# Altium schematic symbol library Converter.SCHLIB: 203 symbols
Pins are listed as number, name and electrical type; pins without a type are passive.

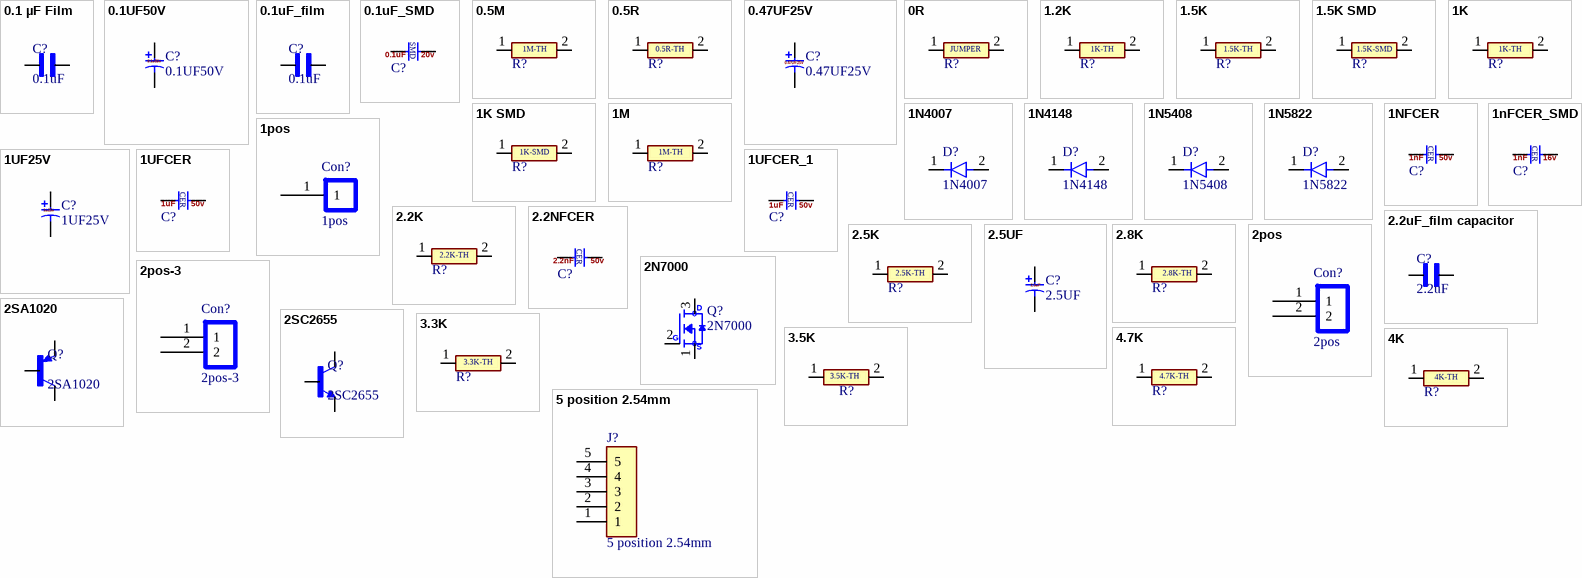
[diagram p0: symbols 0.1 µF Film to 5 position 2.54mm]

## 0.1 µF Film
designator C?, comment 0.1uF
0.15 µF Film Capacitor 275V 560V Polypropylene (PP), Metallized Radial; MF: KYOCERA AVX; MP: SR201C104KARTR1; SnapEDA_Link: https://www.snapeda.com/parts/SR201C104KARTR1/Kyocera/view-part/?ref=snap; Package: None; Value: *; Check_prices: https://www.snapeda.com/parts/SR201C104KARTR1/Kyocera/view-part/?ref=eda
footprint CAP_FILM_X2_15MM
pins: 1, 2

## 0.1UF50V
designator C?
CAP TH AL: 0.1U 50V
footprint CAP LS-1.5mm D4 H5
pins: 1, 2
text: 0.1u50v

## 0.1uF_film
designator C?, comment 0.1uF
Cap Ceramic 0.1uF 100V X7R 10% Radial 2.54mm 125Â°C T/R; MF: KYOCERA AVX; MP: SR201C104KARTR1; SnapEDA_Link: https://www.snapeda.com/parts/SR201C104KARTR1/Kyocera/view-part/?ref=snap; Package: None; Value: *; Check_prices: https://www.snapeda.com/parts/SR201C104KARTR1/Kyocera/view-part/?ref=eda
footprint CAP-P_Pilm
pins: 1, 2

## 0.1uF_SMD
designator C?, comment 0.1uFSMD  (value not drawn)
0402 0.1 uF 16 V ±20 % Tolerance Y5V SMT Multilayer Ceramic Capacitor; LCSC Part #: C1848; Unit Price: 0.0104
footprint C0805
pins: 1, 2
text: SMD; 0.1uF; 20v

## 0.5M
designator R?  (value not drawn)
RES TH: 0.5M
footprint RES-TH-7mm
pins: 1, 2
text: 1M-TH

## 0.5R
designator R?  (value not drawn)
RES TH: 0.5R
footprint RES-TH-7mm
pins: 1, 2
text: 0.5R-TH

## 0.47UF25V
designator C?
CAP TH AL:  0.47UF25V
footprint CAP LS-1.5mm D4 H5
pins: 1, 2

## 0R
designator R?  (value not drawn)
RES TH: JUMPER
footprint RES-TH-7mm
pins: 1, 2
text: JUMPER

## 1.2K
designator R?  (value not drawn)
RES TH: 1.2K
footprint RES-TH-7mm
pins: 1, 2
text: 1K-TH

## 1.5K
designator R?  (value not drawn)
RES TH: 1.5K
footprint RES-TH-7mm
pins: 1, 2
text: 1.5K-TH

## 1.5K SMD
designator R?, comment 1.5K  (value not drawn)
RES SMD: 1.5K
footprint R0805
pins: 1, 2
text: 1.5K-SMD

## 1K
designator R?  (value not drawn)
RES TH: 1K
footprint RES-TH-7mm
pins: 1, 2
text: 1K-TH

## 1K SMD
designator R?, comment 1K  (value not drawn)
RES SMD: 1K
footprint R0805
pins: 1, 2
text: 1K-SMD

## 1M
designator R?  (value not drawn)
RES TH: 1M
footprint RES-TH-7mm
pins: 1, 2
text: 1M-TH

## 1N4007
designator D?
DIODE: GEN 1A 1.0V@1A 1kV DO-41 TH; LCSC Part #: C36138; Unit Price: 0.0313
footprint DIOAD1036W78L470D235
pins: 1, 2

## 1N4148
designator D?
Rectifier Diode Small Signal Switching 100V 0.3A 4ns 2-Pin DO-35 T/R; LCSC Part #: C36138; Unit Price: 0.0313
footprint DIOAD1036W78L470D235
pins: 1, 2

## 1N5408
designator D?
DIODE: GEN 3A 1.2V@3A 1kV DO-201AD TH; LCSC Part #: C36138; Unit Price: 0.0313
footprint DO-201AD TH
pins: 1, 2

## 1N5822
designator D?
DIODE: GEN 3A 40V DO-41 TH; LCSC Part #: C36138; Unit Price: 0.0313
footprint DO-201AD
pins: 1, 2

## 1NFCER
designator C?  (value not drawn)
CAP: CER 1nF 50V; LCSC Part #: C1848; Unit Price: 0.0104
footprint CAP-CER-2.54
pins: 1, 2
text: CER; 1nF; 50v

## 1nFCER_SMD
designator C?, comment 1nFCER  (value not drawn)
CAP: CER 1nF 16V; LCSC Part #: C1848; Unit Price: 0.0104
footprint C0805
pins: 1, 2
text: CER; 1nF; 16v

## 1pos
designator Con?
footprint HDR-TH-1P
pins: 1

## 1UF25V
designator C?
CAP TH AL: 1U 25V
footprint CAP LS-1.5mm D4 H5
pins: 1, 2
text: 1u25v

## 1UFCER
designator C?  (value not drawn)
CAP: CER 1UF 50V; LCSC Part #: C1848; Unit Price: 0.0104
footprint CAP-CER-2.54
pins: 1, 2
text: CER; 1uF; 50v

## 1UFCER_1
designator C?, comment 1UFCER  (value not drawn)
CAP: CER 1 UF; LCSC Part #: C1848; Unit Price: 0.0104
pins: 1, 2
text: CER; 1uF; 50v

## 2.2K
designator R?  (value not drawn)
RES TH: 2.2K
footprint RES-TH-7mm
pins: 1, 2
text: 2.2K-TH

## 2.2NFCER
designator C?  (value not drawn)
CAP TH: CER 2.2nF; LCSC Part #: C1848; Unit Price: 0.0104
footprint CAP-CER-2.54
pins: 1, 2
text: CER; 2.2nF; 50v

## 2.2uF_film capacitor
designator C?, comment 2.2uF
Cap flim 2.2uF 400V; MF: KYOCERA AVX; MP: SR201C104KARTR1; SnapEDA_Link: https://www.snapeda.com/parts/SR201C104KARTR1/Kyocera/view-part/?ref=snap; Package: None; Value: *; Check_prices: https://www.snapeda.com/parts/SR201C104KARTR1/Kyocera/view-part/?ref=eda
footprint Cap_TH L23
pins: 1, 2

## 2.5K
designator R?  (value not drawn)
RES TH: 2.5K
footprint RES-TH-7mm
pins: 1, 2
text: 2.5K-TH

## 2.5UF
designator C?
CAP TH AL: 2.5UF; LCSC Part #: C43351; Unit Price: 0.0057
footprint CAP LS-1.5mm D4 H5
pins: 1, 2
text: 2.5uF

## 2.8K
designator R?  (value not drawn)
RES TH: 2.8K
footprint RES-TH-7mm
pins: 1, 2
text: 2.8K-TH

## 2N7000
designator Q?
MOSFET: N-CH 60V 200mA 350mW TO-92 TH; LCSC Part #: C274639; Unit Price: 0.2595
footprint TO-92
pins: 1 S, 2 G, 3 D

## 2pos
designator Con?
P2.54mm
footprint 2pos
pins: 1, 2

## 2pos-3
designator Con?
P2.54mm
footprint 2POS - 3
pins: 1, 2

## 2SA1020
designator Q?
PNP TH: 20A, 50V TO-126
footprint TO-220x
pins: 1 E, 2 C, 3 B

## 2SC2655
designator Q?
NPN TH: 2A, 50V TO-126
footprint TO-220x
pins: 1 E, 2 C, 3 B

## 3.3K
designator R?  (value not drawn)
RES TH: 3.3K
footprint RES-TH-7mm
pins: 1, 2
text: 3.3K-TH

## 3.5K
designator R?  (value not drawn)
RES TH: 3.5K
footprint RES-TH-7mm
pins: 1, 2
text: 3.5K-TH

## 4.7K
designator R?  (value not drawn)
RES TH: 4.7K
footprint RES-TH-7mm
pins: 1, 2
text: 4.7K-TH

## 4K
designator R?  (value not drawn)
RES TH: 4K
footprint RES-TH-7mm
pins: 1, 2
text: 4K-TH

## 5 position 2.54mm
designator J?
MP: BG095-04-A-N-D; Package: None; Price: None; Value: *; Availability: Unavailable
footprint 5pos_2.54mm
pins: 1, 2, 3, 4, 5

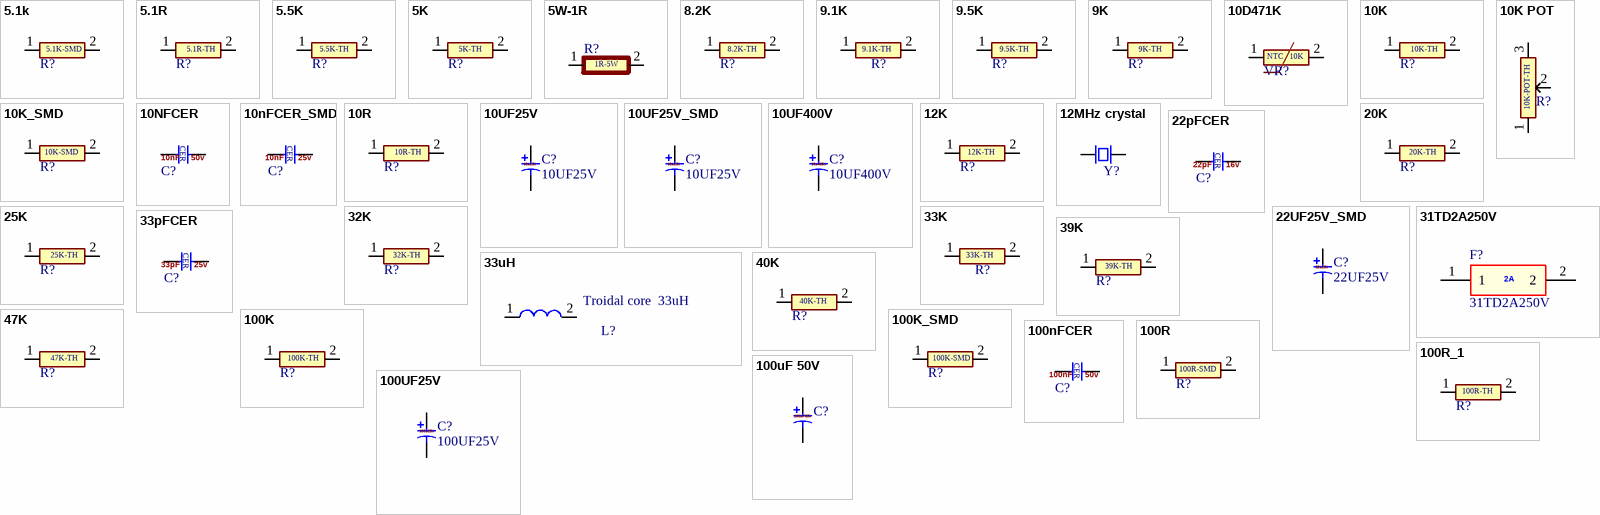
[diagram p1: symbols 5.1k to 100uF 50V]

## 5.1k
designator R?, comment 5.1K  (value not drawn)
RES  SMD: 5.1R
footprint R0805
pins: 1, 2
text: 5.1K-SMD

## 5.1R
designator R?  (value not drawn)
RES TH: 5.1R
footprint RES-TH-7mm
pins: 1, 2
text: 5.1R-TH

## 5.5K
designator R?  (value not drawn)
RES TH: 5.5K
footprint RES-TH-7mm
pins: 1, 2
text: 5.5K-TH

## 5K
designator R?  (value not drawn)
RES TH: 5K
footprint RES-TH-7mm
pins: 1, 2
text: 5K-TH

## 5W-1R
designator R?  (value not drawn)
RES: 5W-1R , LS - 35
footprint RES_TH 5W (Res_TH 3W)
pins: 1, 2
text: 1R-5W

## 8.2K
designator R?  (value not drawn)
RES TH: 8.2K
footprint RES-TH-7mm
pins: 1, 2
text: 8.2K-TH

## 9.1K
designator R?  (value not drawn)
RES TH: 9.1K
footprint RES-TH-7mm
pins: 1, 2
text: 9.1K-TH

## 9.5K
designator R?  (value not drawn)
RES TH: 9.5K
footprint RES-TH-7mm
pins: 1, 2
text: 9.5K-TH

## 9K
designator R?  (value not drawn)
RES TH: 9K
footprint RES-TH-7mm
pins: 1, 2
text: 9K-TH

## 10D471K
designator VR?
MOV TH : 470V
footprint MOV_10D_P5.0
pins: 1, 2
text: NTC   10K

## 10K
designator R?  (value not drawn)
RES TH: 10K
footprint RES-TH-7mm
pins: 1, 2
text: 10K-TH

## 10K POT
designator R?, comment 10K  (value not drawn)
RES TH: 10K POT
footprint TRIM_3296W-1-250
pins: 1, 2, 3
text: 10K-POT-TH

## 10K_SMD
designator R?, comment 10K  (value not drawn)
RES SMD: 10K
footprint R0805
pins: 1, 2
text: 10K-SMD

## 10NFCER
designator C?  (value not drawn)
CAP: CER 1UF 50V X7R 1206; LCSC Part #: C1848; Unit Price: 0.0104
footprint CAP-CER-2.54
pins: 1, 2
text: CER; 10nF; 50v

## 10nFCER_SMD
designator C?  (value not drawn)
CAP: CER 10nF 50V; LCSC Part #: C1848; Unit Price: 0.0104
footprint C0805
pins: 1, 2
text: CER; 10nF; 25v

## 10R
designator R?  (value not drawn)
RES TH: 10R
footprint RES-TH-7mm
pins: 1, 2
text: 10R-TH

## 10UF25V
designator C?
CAP TH AL: 10U 25V
footprint CAP LS-1.5mm D4 H5
pins: 1, 2
text: 10u25v

## 10UF25V_SMD
designator C?, comment 10UF25V
CAP SMD AL: 10U 25V
footprint 1206-CAP
pins: 1, 2
text: 10u25v

## 10UF400V
designator C?
CAP TH AL: 10U 400V
footprint CAP_RADIAL_D10.0_P5.0_H16.0
pins: 1, 2
text: 10u400v

## 12K
designator R?  (value not drawn)
RES TH: 12K
footprint RES-TH-7mm
pins: 1, 2
text: 12K-TH

## 12MHz crystal
designator Y?
12MHz crystal; LCSC Part #: C1848; Unit Price: 0.0104
footprint HC-49S_2-pin
pins: 1, 2

## 20K
designator R?  (value not drawn)
RES TH: 20K
footprint RES-TH-7mm
pins: 1, 2
text: 20K-TH

## 22pFCER
designator C?  (value not drawn)
CAP: CER 22pF 16V; LCSC Part #: C1848; Unit Price: 0.0104
footprint C0805
pins: 1, 2
text: CER; 22pF; 16v

## 22UF25V_SMD
designator C?, comment 22UF25V
CAP SMD AL: 22U 25V
footprint CAP-SMD_BD5.0-L5.3-W5.3-FD
pins: 1, 2
text: 22u25v

## 25K
designator R?  (value not drawn)
RES TH: 25K
footprint RES-TH-7mm
pins: 1, 2
text: 25K-TH

## 31TD2A250V
designator F?
FUSE:  2A Plugin,3.6x10mm Disposable fuses ROHS; LCSC Part #: C529609; Unit Price: 0.0199
footprint Fuse FAN LS-15.8MM (31TD2A250V)
pins: 1, 2
text: 2A

## 32K
designator R?  (value not drawn)
RES TH: 32K
footprint RES-TH-7mm
pins: 1, 2
text: 32K-TH

## 33K
designator R?  (value not drawn)
RES TH: 33K
footprint RES-TH-7mm
pins: 1, 2
text: 33K-TH

## 33pFCER
designator C?  (value not drawn)
CAP: CER 33pF 16V; LCSC Part #: C1848; Unit Price: 0.0104
footprint CAP-CER-2.54
pins: 1, 2
text: CER; 33pF; 25v

## 33uH
designator L?, comment Troidal core  33uH
Troidal core  inductor: 33uH
footprint IND-TH_BD6.0-P4.00-D0.5
pins: 1, 2

## 39K
designator R?  (value not drawn)
RES TH: 39K
footprint RES-TH-7mm
pins: 1, 2
text: 39K-TH

## 40K
designator R?  (value not drawn)
RES TH: 40K
footprint RES-TH-7mm
pins: 1, 2
text: 40K-TH

## 47K
designator R?  (value not drawn)
RES TH: 47K
footprint RES-TH-7mm
pins: 1, 2
text: 47K-TH

## 100K
designator R?  (value not drawn)
RES TH: 100K
footprint RES-TH-7mm
pins: 1, 2
text: 100K-TH

## 100K_SMD
designator R?, comment 100K  (value not drawn)
RES SMD: 100K
footprint R0805
pins: 1, 2
text: 100K-SMD

## 100nFCER
designator C?  (value not drawn)
CAP: CER 100nF 50V; LCSC Part #: C1848; Unit Price: 0.0104
footprint CAP-CER-2.54
pins: 1, 2
text: CER; 100nF; 50v

## 100R
designator R?  (value not drawn)
RES SMD: 100R
footprint R0805
pins: 1, 2
text: 100R-SMD

## 100R_1
designator R?, comment 100R  (value not drawn)
RES TH: 100R
footprint RES-TH-7mm
pins: 1, 2
text: 100R-TH

## 100UF25V
designator C?
CAP TH AL: 100U 25V; LCSC Part #: C43351; Unit Price: 0.0057
footprint CAP LS-2.5mm D6.3 H7 - duplicate
pins: 1, 2
text: 100u25v

## 100uF 50V
designator C?, comment 100uF 50 VT  (value not drawn)
CAP SMD AL: 100uF 50 VT
footprint CAP-SMD
pins: 1, 2
text: 100uF35v

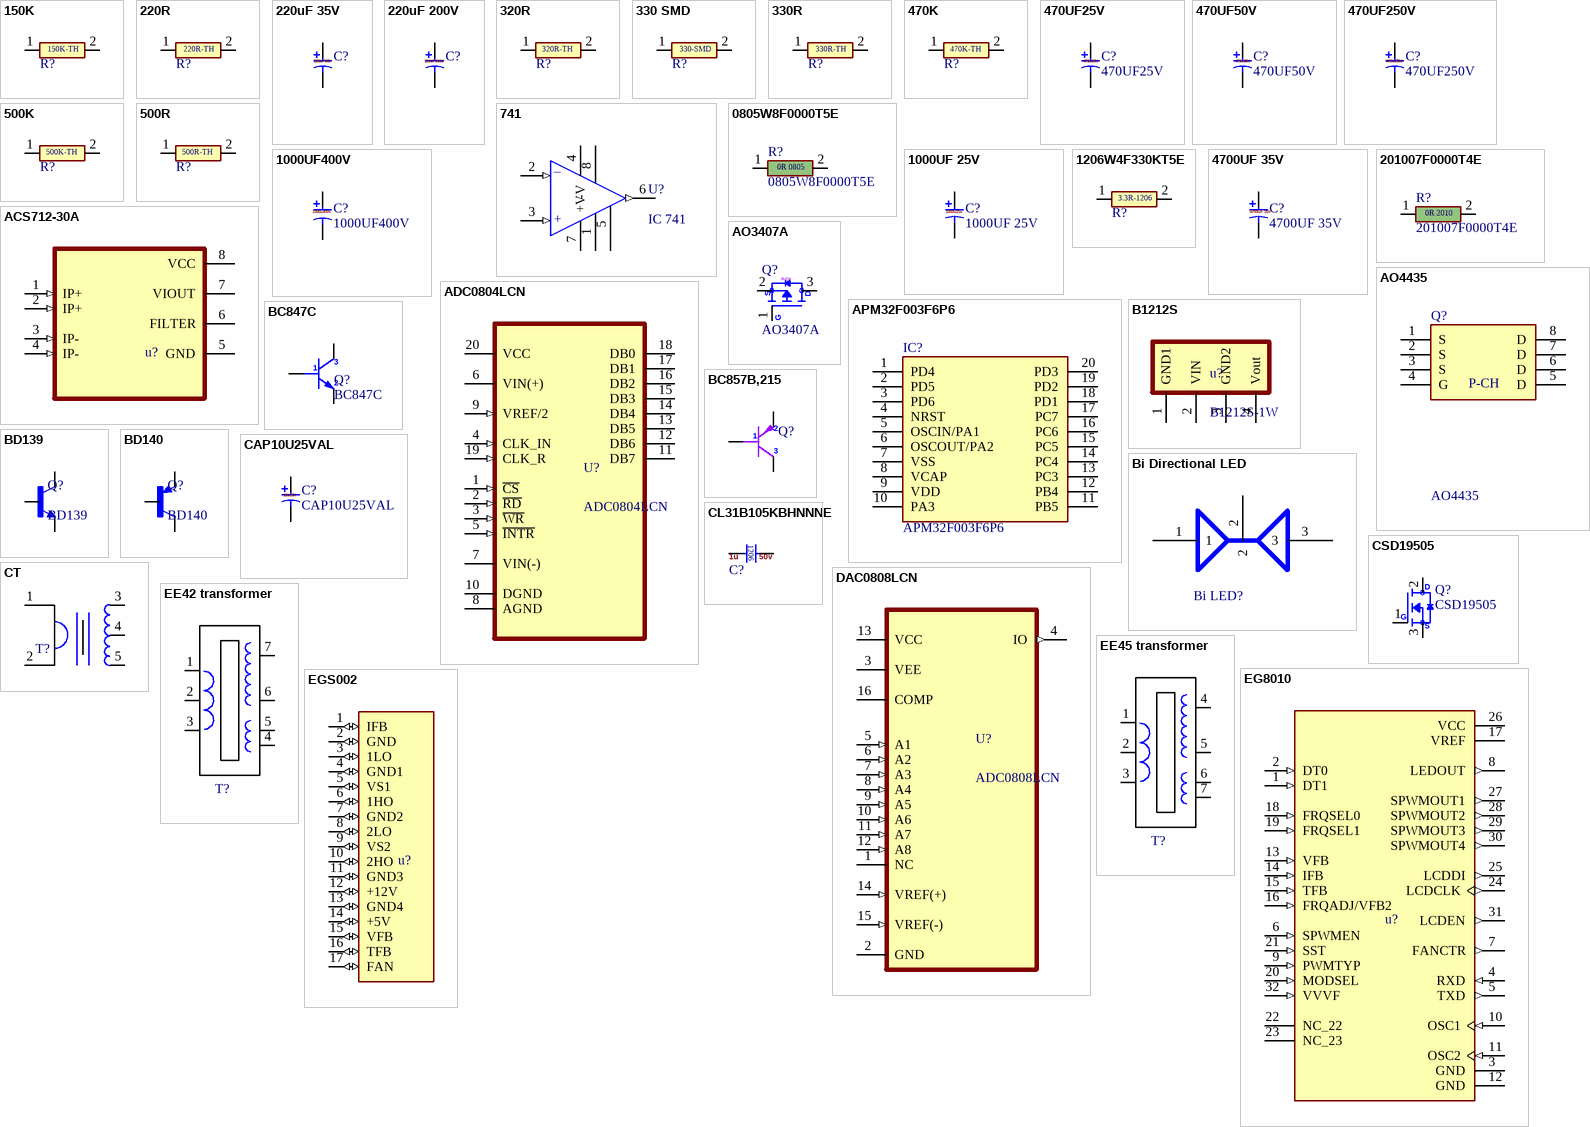
[diagram p2: symbols 150K to EGS002]

## 150K
designator R?  (value not drawn)
RES TH: 150K
footprint RES-TH-7mm
pins: 1, 2
text: 150K-TH

## 220R
designator R?  (value not drawn)
RES TH: 220R
footprint RES-TH-7mm
pins: 1, 2
text: 220R-TH

## 220uF 35V
designator C?, comment 220uF 35 VT  (value not drawn)
CAP SMD AL: 220uF 35 VT
footprint CAP-SMD
pins: 1, 2
text: 220uF35v

## 220uF 200V
designator C?  (value not drawn)
220 µF 200 V Aluminum Electrolytic Capacitors Radial, Can 10000 Hrs @ 105°C
footprint CAP_RADIAL_D18_P7.5_H31.5
pins: 1, 2
text: 220uF200v

## 320R
designator R?  (value not drawn)
RES TH: 320R
footprint RES-TH-7mm
pins: 1, 2
text: 320R-TH

## 330 SMD
designator R?  (value not drawn)
RES SMD: 330
footprint CAPC1005X55N (smd component)
pins: 1, 2
text: 330-SMD

## 330R
designator R?, comment 1K  (value not drawn)
RES TH: 330R
footprint RES-TH-7mm
pins: 1, 2
text: 330R-TH

## 470K
designator R?  (value not drawn)
RES TH: 470K
footprint RES-TH-7mm
pins: 1, 2
text: 470K-TH

## 470UF25V
designator C?
CAP TH AL: 470U 25V; LCSC Part #: C43351; Unit Price: 0.0057
footprint CAP_RADIAL_D13.0_P5.0_H20.0
pins: 1, 2
text: 470u25v

## 470UF50V
designator C?
CAP TH AL: 470U 50V; LCSC Part #: C43351; Unit Price: 0.0057
footprint CAP_RADIAL_D13.0_P5.0_H20.0
pins: 1, 2
text: 470u50v

## 470UF250V
designator C?
CAP TH AL: 470U 250V; LCSC Part #: C43351; Unit Price: 0.0057
footprint CAP-TH_BD22.0-P10.00-D2.3-FD
pins: 1, 2
text: 470u250v

## 500K
designator R?  (value not drawn)
RES TH: 500K
footprint RES-TH-7mm
pins: 1, 2
text: 500K-TH

## 500R
designator R?  (value not drawn)
RES TH: 500R
footprint RES-TH-7mm
pins: 1, 2
text: 500R-TH

## 741
designator U?, comment IC 741
TH- single opamp; MF: Texas Instruments; MP: LM7812CT/NOPB; SnapEDA_Link: https://www.snapeda.com/parts/LM7812CT/NOPB/Texas+Instruments/view-part/?ref=snap; Package: TO-220-3 Texas Instruments; Value: *; Check_prices: https://www.snapeda.com/parts/LM7812CT/NOPB/Texas+Instruments/view-part/?ref=eda
footprint DIP-8
pins: 1 OFS_1, 2 IN- (in), 3 IN+ (in), 4 -V (power), 5 OFS_2, 6 OUT (out), 7 +V (power), 8 N.C
text: _; +

## 0805W8F0000T5E
designator R?
RES: 0R JUMPER 1/4W 0805; LCSC Part #: C17477
footprint R0805
pins: 1, 2
text: 0R 0805

## 1000UF400V
designator C?
CAP TH AL: 1000U 400V; LCSC Part #: C43351; Unit Price: 0.0057
footprint CAP-TH_BD35.0-P10.00-D2.3-FD
pins: 1, 2
text: 1000u400v

## 1000UF 25V
designator C?
CAP TH AL: 1000U 25V; LCSC Part #: C43351; Unit Price: 0.0057
footprint CAP LS-1.5mm D4 H5
pins: 1, 2
text: 1000u25v

## 1206W4F330KT5E
designator R?  (value not drawn)
RES: 3.3 OHM 1% 1/4W 1206; LCSC Part #: C17945; Unit Price: 0.0024
footprint 1206-RES
pins: 1, 2
text: 3.3R-1206

## 4700UF 35V
designator C?
CAP TH AL: 4700UF 35V; LCSC Part #: C43351; Unit Price: 0.0057
footprint CAP-TH_BD18.0-P7.50-D1.2-FD
pins: 1, 2

## 201007F0000T4E
designator R?
RES: 0R JUMPER 3/4W 2010; LCSC Part #: C270974
footprint 2010-RES
pins: 1, 2
text: 0R 2010

## ACS712-30A
designator u?, comment ACS712ELCTR-30A-T  (value not drawn)
Current Sensor 30A 1 Channel Hall Effect, Open Loop Bidirectional 8-SOIC (0.154", 3.90mm Width)
footprint SOP-8_L4.9-W3.9-P1.27-LS6.0-BL
pins: 1 IP+ (in), 2 IP+ (in), 3 IP- (in), 4 IP- (in), 5 GND (power), 6 FILTER, 7 VIOUT, 8 VCC

## ADC0804LCN
designator U?
8 Bit Analog to Digital Converter 1 Input 1 SAR 20-PDIP; LCSC Part #: C5345992; Unit Price: 0.003
footprint DIP-20
pins: 1 ~{CS} (in), 2 ~{RD} (in), 3 ~{WR} (in), 4 CLK_IN (in), 5 ~{INTR} (in), 6 VIN(+) (power), 7 VIN(-) (power), 8 AGND, 9 VREF/2 (in), 10 DGND, 11 DB7, 12 DB6, 13 DB5, 14 DB4, 15 DB3, 16 DB2, 17 DB1, 18 DB0, 19 CLK_R (in), 20 VCC (power)

## AO3407A
designator Q?
MOSFET: P-CH 30V 4.2A 1.4W 1.8V@250uA 1 P-Channel SOT-23 MOSFETs ROHS; LCSC Part #: C347478; Unit Price: 0.0156
footprint SOT-23-3
pins: 1 G, 2 S, 3 D
text: P-CH

## AO4435
designator Q?
MOSFET P-CH 30V 12A SOP-8; LCSC Part #: C2944310
footprint SOIC-8N
pins: 1 S, 2 S, 3 S, 4 G, 5 D, 6 D, 7 D, 8 D
text: P-CH

## APM32F003F6P6
designator IC?
MCU: 32KB ARM-MSeries 4KB 32KB TSSOP-20 Microcontroller Units (MCUs/MPUs/SOCs) ROHS; LCSC Part #: C22388660
footprint TSSOP-20
pins: 1 PD4, 2 PD5, 3 PD6, 4 NRST, 5 OSCIN/PA1, 6 OSCOUT/PA2, 7 VSS (power), 8 VCAP, 9 VDD (power), 10 PA3, 11 PB5, 12 PB4, 13 PC3, 14 PC4, 15 PC5, 16 PC6, 17 PC7, 18 PD1, 19 PD2, 20 PD3

## B1212S
designator u?, comment B1212S-1W
Isolated DC-DC Converter; LCSC Part #: C5345992; Unit Price: 0.003
footprint SIP-4
pins: 1 GND1, 2 VIN, 3 GND2, 4 Vout

## BC847C
designator Q?
Transistor: 45V 420@2mA,5V 100mA NPN SOT-23 Bipolar (BJT) ROHS; LCSC Part #: C181141; Unit Price: 0.004
footprint SOT-23-3
pins: 1 B, 2 E, 3 C

## BC857B,215
designator Q?  (value not drawn)
Transistor: 45V 250mW 220@2mA,5V 100mA PNP SOT-23 / Nexperia; LCSC Part #: C59205; Unit Price: 0.0048
footprint SOT-23-3
pins: 1 B, 2 E, 3 C

## BD139
designator Q?
NPN TH: 1.5A, 80V TO-126
footprint TO-220x
pins: 1 E, 2 C, 3 B

## BD140
designator Q?
PNP TH: 1.5A, 80V TO-126
footprint TO-220x
pins: 1 E, 2 C, 3 B

## Bi Directional LED
designator Bi LED?  (value not drawn)
LED: LS-2.54mm, LED dia-3mm, 2 color LED, 3 Pin
footprint Bi_directional_led N (Bi_directional_led)
pins: 1, 2, 3

## CAP10U25VAL
designator C?
CAP: AlEl 10UF 20% 25V RADIAL TH / LS 1.5mm D4xL7; LCSC Part #: C43351; Unit Price: 0.0057
footprint CAP LS-1.5mm D4 H5
pins: 1, 2
text: 10u25v

## CL31B105KBHNNNE
designator C?  (value not drawn)
CAP: CER 1UF 50V X7R 1206; LCSC Part #: C1848; Unit Price: 0.0104
footprint 1206-CAP
pins: 1, 2
text: 1206; 1u; 50v

## CSD19505
designator Q?
MOSFET: N-CH 100V 128A; LCSC Part #: C274639; Unit Price: 0.2595
footprint TO-220
pins: 1 G, 2 D, 3 S

## CT
designator T?, comment current transformer  (value not drawn)
CT Troidal core : 66 trun center tab
pins: 1, 2, 3, 4, 5

## DAC0808LCN
designator U?, comment ADC0808LCN
8 Bit Digital to Analog Converter 1 16-PDIP; LCSC Part #: C5345992; Unit Price: 0.003
footprint DIP-16
pins: 1 NC, 2 GND, 3 VEE (power), 4 IO (out), 5 A1 (in), 6 A2 (in), 7 A3 (in), 8 A4 (in), 9 A5 (in), 10 A6 (in), 11 A7 (in), 12 A8 (in), 13 VCC (power), 14 VREF(+) (in), 15 VREF(-) (in), 16 COMP

## EE42 transformer
designator T?, comment current transformer  (value not drawn)
ferrite core transformer EE42
footprint EE35-FP16
pins: 1, 2, 3, 4, 5, 6, 7

## EE45 transformer
designator T?, comment current transformer  (value not drawn)
ferrite core transformer EE45
footprint EE55-TX
pins: 1, 2, 3, 4, 5, 6, 7

## EG8010
designator u?  (value not drawn)
EG8010 SPWM Pure Sine Wave Inverter Controller IC
footprint LQFP-32_L7.0-W7.0-P0.80-LS9.0-BL
pins: 1 DT1 (in), 2 DT0 (in), 3 GND (power), 4 RXD (in), 5 TXD (out), 6 SPWMEN (in), 7 FANCTR (out), 8 LEDOUT (out), 9 PWMTYP (in), 10 OSC1 (in), 11 OSC2 (in), 12 GND (power), 13 VFB (in), 14 IFB (in), 15 TFB (in), 16 FRQADJ/VFB2 (in), 17 VREF (power), 18 FRQSEL0 (in), 19 FRQSEL1 (in), 20 MODSEL (in), 21 SST (in), 22 NC_22, 23 NC_23, 24 LCDCLK (out), 25 LCDDI (out), 26 VCC (power), 27 SPWMOUT1 (out), 28 SPWMOUT2 (out), 29 SPWMOUT3 (out), 30 SPWMOUT4 (out), 31 LCDEN (out), 32 VVVF (in)

## EGS002
designator u?  (value not drawn)
EGS002 SPWM Pure Sine Wave Inverter Driver Board
footprint PinHeader_1x17_P2.54mm
pins: 1 IFB (io), 2 GND (io), 3 1LO (io), 4 GND1 (io), 5 VS1 (io), 6 1HO (io), 7 GND2 (io), 8 2LO (io), 9 VS2 (io), 10 2HO (io), 11 GND3 (io), 12 +12V (io), 13 GND4 (io), 14 +5V (io), 15 VFB (io), 16 TFB (io), 17 FAN (io)

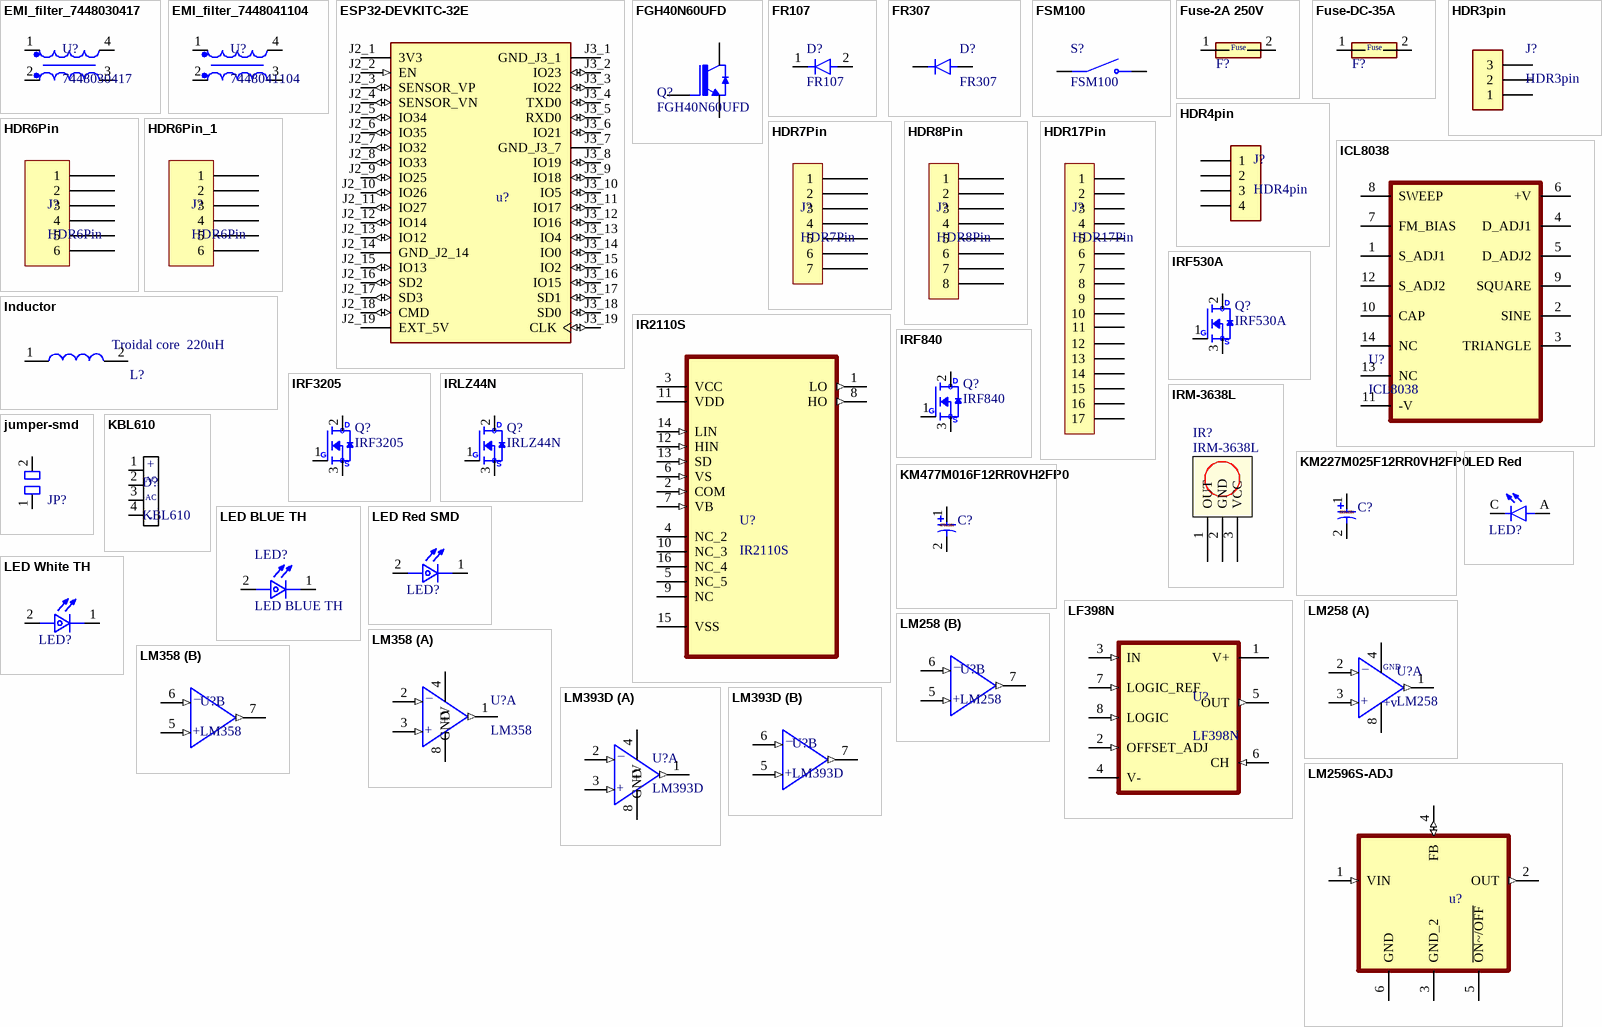
[diagram p3: symbols EMI_filter_7448030417 to LM2596S-ADJ]

## EMI_filter_7448030417
designator U?, comment 7448030417
Common Mode Chokes / Filters WE-CMBNC Type L Nancrystl 10kHz 11A
footprint CMC_THT_4PIN_23x13mm
pins: 1, 2, 3, 4

## EMI_filter_7448041104
designator U?, comment 7448041104
Common Mode Chokes / Filters WE-CMBNC Type L Nancrystl 10kHz 11A
footprint CMC_THT_4PIN_29x19mm
pins: 1, 2, 3, 4

## ESP32-DEVKITC-32E
designator u?, comment ESP32  (value not drawn)
The ESP32-DEVKITC-32E transceiver evaluation board from Espressif Systems is a powerful development tool for wireless communication
footprint ESP32-WROOM-32
pins: J2_1 3V3 (power), J2_2 EN (in), J2_3 SENSOR_VP (io), J2_4 SENSOR_VN (io), J2_5 IO34 (io), J2_6 IO35 (io), J2_7 IO32 (io), J2_8 IO33 (io), J2_9 IO25 (io), J2_10 IO26 (io), J2_11 IO27 (io), J2_12 IO14 (io), J2_13 IO12 (io), J2_14 GND_J2_14 (power), J2_15 IO13 (io), J2_16 SD2 (io), J2_17 SD3 (io), J2_18 CMD (io), J2_19 EXT_5V (power), J3_1 GND_J3_1 (power), J3_2 IO23 (io), J3_3 IO22 (io), J3_4 TXD0 (io), J3_5 RXD0 (io), J3_6 IO21 (io), J3_7 GND_J3_7 (power), J3_8 IO19 (io), J3_9 IO18 (io), J3_10 IO5 (io), J3_11 IO17 (io), J3_12 IO16 (io), J3_13 IO4 (io), J3_14 IO0 (io), J3_15 IO2 (io), J3_16 IO15 (io), J3_17 SD1 (io), J3_18 SD0 (io), J3_19 CLK (io)

## FGH40N60UFD
designator Q?
FGH40N60UFD: 600V Field-Stop IGBT with ultrafast co-pack diode, 40A class, VCE(sat) typ 1.8V @ 40A/15V, TO-247-3LD (short lead) package.; LCSC Part #: C274639; Unit Price: 0.2595
footprint TO-247-3LD
pins: 1 G, 2 C, 3 E

## FR107
designator D?
DIODE: GEN 1A 1.0V@1A 1kV DO-41 TH; LCSC Part #: C36138; Unit Price: 0.0313
footprint DIOAD1036W78L470D235
pins: 1, 2

## FR307
designator D?
DIODE: 500ns, 3A, 1000V, Fast Recovery RectifierDO-201AD TH; LCSC Part #: C36138; Unit Price: 0.0313
footprint DO-27_BD5.3-L8.4-P12.40-D1.3-RD
pins: A, C K

## FSM100
designator S?
Alcoswitch FSM100-104, Tactile Switches, Round Actuator Style, Operating Function NO, Brass Contact Base Material; LCSC Part #: C6252471
footprint SW_1437565-2
pins: 1 COM, 2 COM, 3 NO, 4 NO

## Fuse-2A 250V
designator F?, comment fuse  (value not drawn)
Fuse TH: 2A 250V
footprint FUSE FAN LS-15.8MM (31TD2A250V)
pins: 1, 2
text: Fuse

## Fuse-DC-35A
designator F?, comment fuse  (value not drawn)
Fuse TH: 0287040.PXCN / 35A
footprint FUSE-TH_L19.1-W5.1
pins: 1, 2
text: Fuse

## HDR3pin
designator J?
Conn Unshrouded Header HDR 4 POS 2.54mm Solder ST Top Entry Thru-Hole Bulk; MF: Samtec; MP: TSW-104-23-H-S-LL; SnapEDA_Link: https://www.snapeda.com/parts/TSW-104-23-H-S-LL/Samtec/view-part/?ref=snap; Package: None; Value: *; Check_prices: https://www.snapeda.com/parts/TSW-104-23-H-S-LL/Samtec/view-part/?ref=eda
footprint HDR-3P
pins: 1, 2, 3

## HDR4pin
designator J?
Conn Unshrouded Header HDR 4 POS 2.54mm Solder ST Top Entry Thru-Hole Bulk; MF: Samtec; MP: TSW-104-23-H-S-LL; SnapEDA_Link: https://www.snapeda.com/parts/TSW-104-23-H-S-LL/Samtec/view-part/?ref=snap; Package: None; Value: *; Check_prices: https://www.snapeda.com/parts/TSW-104-23-H-S-LL/Samtec/view-part/?ref=eda
footprint HDR-4P
pins: 1, 2, 3, 4

## HDR6Pin
designator J?
HEADER: 1*6P Male
footprint HDR-TH_6P-P2.54-V-F
pins: 1, 2, 3, 4, 5, 6

## HDR6Pin_1
designator J?, comment HDR6Pin
HEADER: 1*6P FEMale
footprint HDR-TH_6P-P2.54-V-F - duplicate
pins: 1, 2, 3, 4, 5, 6

## HDR7Pin
designator J?
HEADER: 1*7P Male
footprint HDR-TH 7P - male hader
pins: 1, 2, 3, 4, 5, 6, 7

## HDR8Pin
designator J?
HEADER: 1*8P Male
footprint HDR-TH_8P-P2.54-V-M
pins: 1, 2, 3, 4, 5, 6, 7, 8

## HDR17Pin
designator J?
HEADER: 1*17P Male
footprint HDR-TH_17P-P2.54-V-M
pins: 1, 2, 3, 4, 5, 6, 7, 8, 9, 10, 11, 12, 13, 14, 15, 16, 17

## ICL8038
designator U?
IC: PWM Controllar
footprint DIP-14
pins: 1 S_ADJ1, 2 SINE, 3 TRIANGLE, 4 D_ADJ1, 5 D_ADJ2, 6 +V, 7 FM_BIAS (power), 8 SWEEP, 9 SQUARE, 10 CAP, 11 -V, 12 S_ADJ2 (power), 13 NC, 14 NC

## Inductor
designator L?, comment Troidal core  220uH
Troidal core  inductor: 220uH
footprint TOROIDAL CORE INDUCTOR
pins: 1, 2

## IR2110S
designator U?
IC: mosfet driver
footprint 16-pin SOIC
pins: 1 LO (out), 2 COM (in), 3 VCC (power), 4 NC_2, 5 NC_5, 6 VS (in), 7 VB (in), 8 HO (out), 9 NC, 10 NC_3, 11 VDD (power), 12 HIN (in), 13 SD (in), 14 LIN (in), 15 VSS, 16 NC_4

## IRF530A
designator Q?
MOSFET: N-CH 100V 14A TO-220; LCSC Part #: C274639; Unit Price: 0.2595
footprint TO-220
pins: 1 G, 2 D, 3 S

## IRF840
designator Q?
MOSFET: N-CH 500V 8A TO-220; LCSC Part #: C274639; Unit Price: 0.2595
footprint TO-220
pins: 1 G, 2 D, 3 S

## IRF3205
designator Q?
MOSFET: N-CH 55V 110A TO-220; LCSC Part #: C274639; Unit Price: 0.2595
footprint TO-220
pins: 1 G, 2 D, 3 S

## IRLZ44N
designator Q?
MOSFET: N-CH 55 V 49A TO-220; LCSC Part #: C274639; Unit Price: 0.2595
footprint TO-220
pins: 1 G, 2 D, 3 S

## IRM-3638L
designator IR?
IR: 6m 330uA 2.7V~5.5V SIP-3-2.54mm Infrared Remote Receiver (IRM) ROHS; LCSC Part #: C2936550
footprint IRM 3638L
pins: 1 OUT, 2 GND, 3 VCC

## jumper-smd
designator JP?, comment jumper  (value not drawn)
jumper-smd
footprint JP
pins: 1, 2

## KBL610
designator D?
BRIDGE RECTIFIER: KBL610 6A 1kV KBL PACKAGE TH; LCSC Part #: C36138; Unit Price: 0.0313
footprint KBL610G
pins: 1, 2, 3, 4
text: +; AC; -

## KM227M025F12RR0VH2FP0
designator C?  (value not drawn)
CAP: AlEl 220UF 20% 25V RADIAL TH / LS-3.5mm D8xL12mm; LCSC Part #: C43837; Unit Price: 0.0149
footprint CAP LS-3.5mm D8 H11 (CAP LS-3.5mm D8)
pins: 1, 2
text: 220u25v

## KM477M016F12RR0VH2FP0
designator C?  (value not drawn)
CAP: AlEl 470UF 20% 16V RADIAL TH / LS 3.5mm, D8xL12mm; LCSC Part #: C28067; Unit Price: 0.0151
footprint CAP LS-3.5mm D8 H11 (CAP LS-3.5mm D8)
pins: 1, 2
text: 470u16v

## LED BLUE TH
designator LED?
LED: BLUE, Through Hole, T-1 3/4 (5mm), 30 mA, 2.1 V, 635 nm
footprint LED_5mm P5MM
pins: 1, 2

## LED Red
designator LED?  (value not drawn)
LED TH: 1.9V LED; LCSC Part #: C7470709
footprint LED_5MM P2.5MM WHITE
pins: A, C

## LED Red SMD
designator LED?  (value not drawn)
LED: Yellow, SMD, 0402 (1.0×0.5mm), 20 mA, 2.0V / YLED0402O; LCSC Part #: C7470709
footprint LED0805
pins: 1, 2

## LED White TH
designator LED?  (value not drawn)
LED: White, Through Hole, T-1 3/4 (5mm), 30 mA, 2.1V / LS-5MM; LCSC Part #: C7470709
footprint LED_5mm P5MM WHITE
pins: 1, 2

## LF398N
designator U?
Monolithic sample and hold circuit (10-µs acquisition, 7-mV offset); LCSC Part #: C5345992; Unit Price: 0.003
footprint DIP-8
pins: 1 V+ (power), 2 OFFSET_ADJ (in), 3 IN (in), 4 V- (power), 5 OUT (out), 6 CH (in), 7 LOGIC_REF (in), 8 LOGIC (in)

## LM258
designator U?
TH- dual opamp; MF: Texas Instruments; MP: LM7812CT/NOPB; SnapEDA_Link: https://www.snapeda.com/parts/LM7812CT/NOPB/Texas+Instruments/view-part/?ref=snap; Package: TO-220-3 Texas Instruments; Value: *; Check_prices: https://www.snapeda.com/parts/LM7812CT/NOPB/Texas+Instruments/view-part/?ref=eda
footprint DIP-8
part A pins: 1 (out), 2 (in), 3 (in), 4 (power), 8 (power)
part B pins: 5 (in), 6 (in), 7 (out)
part A text: _; GND; +; +v
part B text: _; +

## LM358
designator U?
TH- dual opamp; MF: Texas Instruments; MP: LM7812CT/NOPB; SnapEDA_Link: https://www.snapeda.com/parts/LM7812CT/NOPB/Texas+Instruments/view-part/?ref=snap; Package: TO-220-3 Texas Instruments; Value: *; Check_prices: https://www.snapeda.com/parts/LM7812CT/NOPB/Texas+Instruments/view-part/?ref=eda
footprint DIP-8
part A pins: 1 (out), 2 (in), 3 (in), 4 GND (power), 8 +V (power)
part B pins: 5 (in), 6 (in), 7 (out)
part A text: _; +
part B text: _; +

## LM393D
designator U?
TH- dual opamp; MF: Texas Instruments; MP: LM7812CT/NOPB; SnapEDA_Link: https://www.snapeda.com/parts/LM7812CT/NOPB/Texas+Instruments/view-part/?ref=snap; Package: TO-220-3 Texas Instruments; Value: *; Check_prices: https://www.snapeda.com/parts/LM7812CT/NOPB/Texas+Instruments/view-part/?ref=eda
footprint SOP-8_L4.9-W3.9-P1.27-LS6.0-BL
part A pins: 1 (out), 2 (in), 3 (in), 4 GND (power), 8 +V (power)
part B pins: 5 (in), 6 (in), 7 (out)
part A text: _; +
part B text: _; +

## LM2596S-ADJ
designator u?  (value not drawn)
SMD : LM2596S-ADJ IC
footprint TO-263
pins: 1 VIN (in), 2 OUT (out), 3 GND_2, 4 FB (io), 5 ~{ON~/OFF}, 6 GND

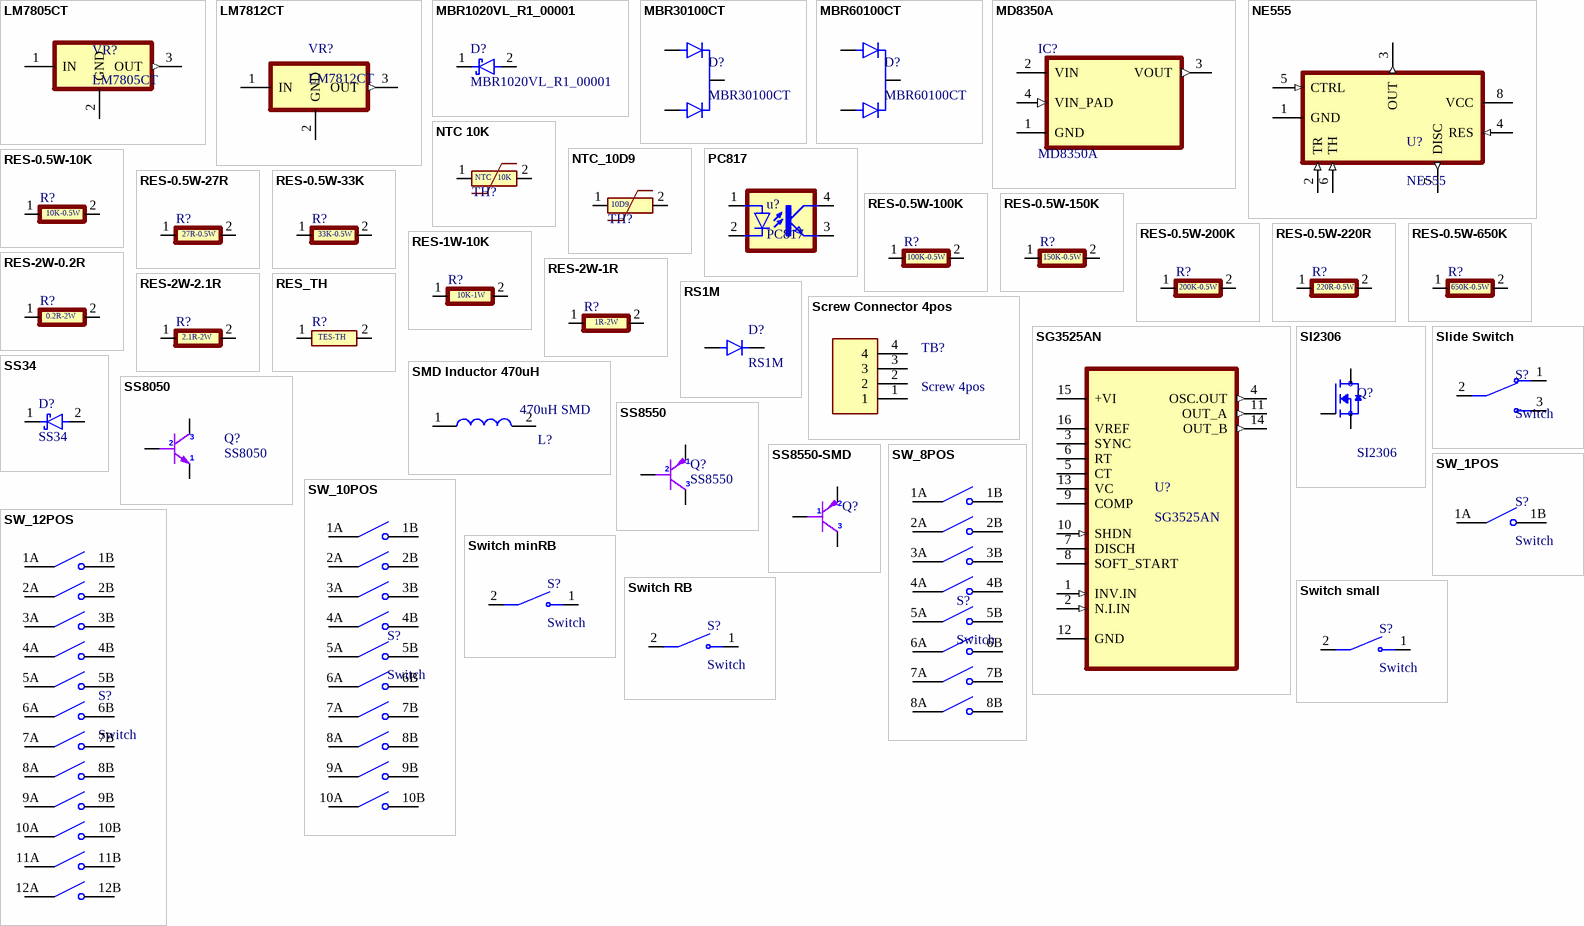
[diagram p4: symbols LM7805CT to Switch small]

## LM7805CT
designator VR?
1.5-A,  5-V, linear voltage regulator; MF: Texas Instruments; MP: LM7812CT/NOPB; SnapEDA_Link: https://www.snapeda.com/parts/LM7812CT/NOPB/Texas+Instruments/view-part/?ref=snap; Package: TO-220-3 Texas Instruments; Value: *; Check_prices: https://www.snapeda.com/parts/LM7812CT/NOPB/Texas+Instruments/view-part/?ref=eda
footprint TO254P1054X470X1955-3
pins: 1 IN, 2 GND (power), 3 OUT (out)

## LM7812CT
designator VR?
1.5-A, 12-V, linear voltage regulator; MF: Texas Instruments; MP: LM7812CT/NOPB; SnapEDA_Link: https://www.snapeda.com/parts/LM7812CT/NOPB/Texas+Instruments/view-part/?ref=snap; Package: TO-220-3 Texas Instruments; Value: *; Check_prices: https://www.snapeda.com/parts/LM7812CT/NOPB/Texas+Instruments/view-part/?ref=eda
footprint TO254P1054X470X1955-3
pins: 1 IN, 2 GND (power), 3 OUT (out)

## MBR1020VL_R1_00001
designator D?
DIODE: 20V 340mV@1A 1A SOD-123FL Schottky Diodes ROHS; LCSC Part #: C391533; Unit Price: 0.0549
footprint SOD-123F-2 (SODFL3617X108N)
pins: 1, 2

## MBR30100CT
designator D?
30A, 100V, Automotive Planar Schottky DIODE; LCSC Part #: C36138; Unit Price: 0.0313
footprint TO-220x
pins: 1 A1, 2 C, 3 A2

## MBR60100CT
designator D?
60A, 100V, Automotive Planar Schottky DIODE; LCSC Part #: C36138; Unit Price: 0.0313
footprint TO-220x
pins: 1 A1, 2 C, 3 A2

## MD8350A
designator IC?
LDO: 300mA SOT-89-3 Voltage Regulators - Linear, Low Drop Out (LDO); LCSC Part #: C1884527; Unit Price: 0.0666
footprint SOT89R
pins: 1 GND, 2 VIN (power), 3 VOUT, 4 VIN_PAD

## NE555
designator U?
555 Type, Timer/Oscillator (Single) IC 500kHz 8-DIP; LCSC Part #: C5345992; Unit Price: 0.003
footprint DIP-8
pins: 1 GND, 2 TR (in), 3 OUT (out), 4 RES (in), 5 CTRL (in), 6 TH (in), 7 DISC (out), 8 VCC (power)

## NTC 10K
designator TH?, comment 10K  (value not drawn)
NTC TH: 10K
footprint NTC-TH
pins: 1, 2
text: NTC   10K

## NTC_10D9
designator TH?, comment 10K  (value not drawn)
NTC TH: 10K
footprint MOV_10D_P5.0
pins: 1, 2
text: 10D9

## PC817
designator u?
Optoisolator Transistor Output 5000Vrms 1 Channel 4-DIP
footprint DIP-4
pins: 1 A, 2 C, 3 EMIT, 4 COL

## RES-0.5W-10K
designator R?  (value not drawn)
RES: 10K OHM 1% 0.5W TH
footprint Res_TH 3W
pins: 1, 2
text: 10K-0.5W

## RES-0.5W-27R
designator R?  (value not drawn)
RES: 27 OHM 1% 0.5W TH
footprint RES_TH 3W (Res_TH 3W)
pins: 1, 2
text: 27R-0.5W

## RES-0.5W-33K
designator R?  (value not drawn)
RES: 33K OHM 1% 0.5W TH
footprint Res_TH 3W
pins: 1, 2
text: 33K-0.5W

## RES-0.5W-100K
designator R?  (value not drawn)
RES: 100K OHM 1% 0.5W TH
footprint Res_TH 3W
pins: 1, 2
text: 100K-0.5W

## RES-0.5W-150K
designator R?  (value not drawn)
RES: 150K OHM 1% 0.5W TH
footprint RES_TH 3W (Res_TH 3W)
pins: 1, 2
text: 150K-0.5W

## RES-0.5W-200K
designator R?  (value not drawn)
RES: 200K OHM 1% 0.5W TH
footprint RES_TH 3W (Res_TH 3W)
pins: 1, 2
text: 200K-0.5W

## RES-0.5W-220R
designator R?  (value not drawn)
RES: 220R OHM 1% 0.5W TH
footprint Res_TH 3W
pins: 1, 2
text: 220R-0.5W

## RES-0.5W-650K
designator R?  (value not drawn)
RES: 650K OHM 1% 0.5W TH
footprint RES_TH 3W (Res_TH 3W)
pins: 1, 2
text: 650K-0.5W

## RES-1W-10K
designator R?, comment RES-2W-1R  (value not drawn)
RES: 10K OHM 1% 1W TH
footprint RES_TH 3W (Res_TH 3W)
pins: 1, 2
text: 10K-1W

## RES-2W-0.2R
designator R?, comment RES-2W-2.1RRES-3W-0.2R  (value not drawn)
RES: 0.2OHM 1% 2W TH
footprint RES_TH 3W (Res_TH 3W)
pins: 1, 2
text: 0.2R-2W

## RES-2W-1R
designator R?  (value not drawn)
RES: 1 OHM 1% 2W TH
footprint RES_TH 3W (Res_TH 3W)
pins: 1, 2
text: 1R-2W

## RES-2W-2.1R
designator R?, comment RES-2W-2.1RRES-3W-5.1R  (value not drawn)
RES: 2.1 OHM 1% 2W TH
footprint Res_TH 3W
pins: 1, 2
text: 2.1R-2W

## RES_TH
designator R?  (value not drawn)
RES: TH; LCSC Part #: C25384; Unit Price: 0.0012
footprint RES-TH-7mm
pins: 1, 2
text: TES-TH

## RS1M
designator D?
500ns, 1A, 1000V, Fast Recovery Rectifier; LCSC Part #: C36138; Unit Price: 0.0313
footprint DO-214AC
pins: A, C K

## Screw Connector 4pos
designator TB?, comment Screw 4pos
2~24 Poles, Screw Type, Horizontal, 3.5 Pitch, 26~12 (AWG), Terminal Block Connector; LCSC Part #: C5345992; Unit Price: 0.003
footprint TerminalBlock_1x04_P3.50mm
pins: 1, 2, 3, 4

## SG3525AN
designator U?
Buck, Push-Pull Regulator Positive Output Step-Down, Step-Up/Step-Down - DC-DC Controller IC 16-DIP; MF: STMicroelectronics; SnapEDA_Link: https://www.snapeda.com/parts/SG3525AN/STMicroelectronics/view-part/?ref=snap; Package: PDIP-16 ON Semiconductor; Value: *; MP: SG3525AN; Check_prices: https://www.snapeda.com/parts/SG3525AN/STMicroelectronics/view-part/?ref=eda
footprint DIP-16
pins: 1 INV.IN (in), 2 N.I.IN (in), 3 SYNC, 4 OSC.OUT (out), 5 CT, 6 RT, 7 DISCH, 8 SOFT_START, 9 COMP, 10 SHDN (in), 11 OUT_A (out), 12 GND, 13 VC, 14 OUT_B (out), 15 +VI (power), 16 VREF

## SI2306
designator Q?
MOSFET: N-CH 30V 4A 1.25W 35mΩ@10V 3V@250uA 1 N-Channel SOT-23 MOSFETs ROHS; LCSC Part #: C347489; Unit Price: 0.0155
footprint SOT95P23
pins: 1 G, 2 S, 3 D

## Slide Switch
designator S?, comment Switch
ESS-22G2545 slide switch current rating: 0.3 A (300 mA) at 30 V DC.; LCSC Part #: C5345992; Unit Price: 0.003
footprint ESS-22G2545
pins: 1, 2, 3

## SMD Inductor 470uH
designator L?, comment 470uH SMD
SMD Inductor 470uH
footprint IND-SMD
pins: 1, 2

## SS34
designator D?
DIODE: SCHOTTKY 40V 3A / DO-214AC(SMA); LCSC Part #: C8678; Unit Price: 0.0126
footprint SMA (DO-214AC)
pins: 1, 2

## SS8050
designator Q?
Transistor: 25V 300mW 120@100mA,1V 1.5A NPN SOT-23; LCSC Part #: C59205; Unit Price: 0.0048
footprint TO-92
pins: 1 E, 2 B, 3 C

## SS8550
designator Q?
Transistor: 25V 200mW 120@100mA,1V 1.5A PNP SOT-23 EVVO; LCSC Part #: C59205; Unit Price: 0.0048
footprint TO-92
pins: 1 E, 2 B, 3 C

## SS8550-SMD
designator Q?, comment SS8550  (value not drawn)
Transistor: 25V 200mW 120@100mA,1V 1.5A PNP SOT-23 EVVO; LCSC Part #: C59205; Unit Price: 0.0048
footprint SOT-23-3
pins: 1 B, 2 E, 3 C

## SW_1POS
designator S?, comment Switch
S1 Position, Through Hole, 2.54 mm Pitch, Raised Slide Actuator, Convex Bottom, Long Pin, DIP Switch; LCSC Part #: C5345992; Unit Price: 0.003
footprint DIPSW-1P-2.54mm
pins: 1A COM1, 1B NO1

## SW_8POS
designator S?, comment Switch
S8 Position, Through Hole, 2.54 mm Pitch, Raised Slide Actuator, Convex Bottom, Long Pin, DIP Switch; LCSC Part #: C5345992; Unit Price: 0.003
footprint DIPSW-8P-2.54mm
pins: 1A COM1, 1B NO1, 2A COM2, 2B NO2, 3A COM3, 3B NO3, 4A COM4, 4B NO4, 5A COM5, 5B NO5, 6A COM6, 6B NO6, 7A COM7, 7B NO7, 8A COM8, 8B NO8

## SW_10POS
designator S?, comment Switch
S10 Position, Through Hole, 2.54 mm Pitch, Raised Slide Actuator, Convex Bottom, Long Pin, DIP Switch; LCSC Part #: C5345992; Unit Price: 0.003
footprint DIPSW-10P-2.54mm
pins: 1A COM1, 1B NO1, 2A COM2, 2B NO2, 3A COM3, 3B NO3, 4A COM4, 4B NO4, 5A COM5, 5B NO5, 6A COM6, 6B NO6, 7A COM7, 7B NO7, 8A COM8, 8B NO8, 9A COM9, 9B NO9, 10A COM10, 10B NO10

## SW_12POS
designator S?, comment Switch
S12 Position, Through Hole, 2.54 mm Pitch, Raised Slide Actuator, Convex Bottom, Long Pin, DIP Switch; LCSC Part #: C5345992; Unit Price: 0.003
footprint DIPSW-12P-2.54mm
pins: 1A COM1, 1B NO1, 2A COM2, 2B NO2, 3A COM3, 3B NO3, 4A COM4, 4B NO4, 5A COM5, 5B NO5, 6A COM6, 6B NO6, 7A COM7, 7B NO7, 8A COM8, 8B NO8, 9A COM9, 9B NO9, 10A COM10, 10B NO10, 11A COM11, 11B NO11, 12A COM12, 12B NO12

## Switch minRB
designator S?, comment Switch
Rocker Switches 5A , OFF-ON, Black Rocker,; LCSC Part #: C5345992; Unit Price: 0.003
footprint SW mini RB
pins: 1, 2

## Switch RB
designator S?, comment Switch
Rocker Switches 15A 125VAC, OFF-ON, Black Rocker, No Markings; LCSC Part #: C5345992; Unit Price: 0.003
footprint SW_RB
pins: 1, 2

## Switch small
designator S?, comment Switch
Rocker Switches 5A , OFF-ON, Black Rocker,; LCSC Part #: C5345992; Unit Price: 0.003
footprint switch_TH
pins: 1, 2

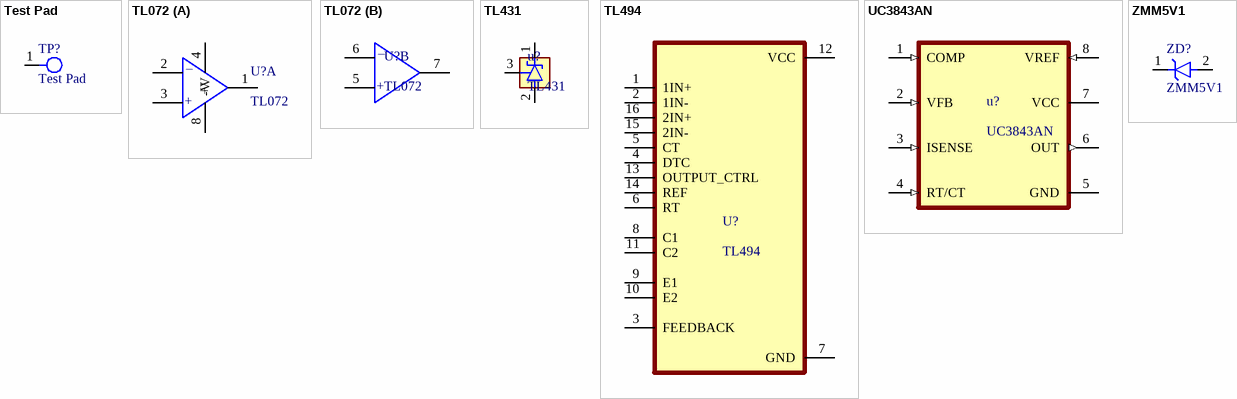
[diagram p5: symbols Test Pad to ZMM5V1]

## Test Pad
designator TP?
TESTPAD: Test Pad
footprint Test Pad FP (Footprint not found)
pins: 1

## TL072
designator U?
TH- dual opamp; MF: Texas Instruments; MP: LM7812CT/NOPB; SnapEDA_Link: https://www.snapeda.com/parts/LM7812CT/NOPB/Texas+Instruments/view-part/?ref=snap; Package: TO-220-3 Texas Instruments; Value: *; Check_prices: https://www.snapeda.com/parts/LM7812CT/NOPB/Texas+Instruments/view-part/?ref=eda
footprint DIP-8
part A pins: 1, 2, 3, 4 -V (power), 8 +V (power)
part B pins: 5, 6, 7
part A text: _; +
part B text: _; +

## TL431
designator u?
Adjustable precision shunt regulator
footprint TO-92
pins: 1 CATHODE, 2 ANODE, 3 REF

## TL494
designator U?
IC: PWM Controllar
footprint DIP-16
pins: 1 1IN+, 2 1IN-, 3 FEEDBACK, 4 DTC, 5 CT, 6 RT, 7 GND (power), 8 C1, 9 E1, 10 E2, 11 C2, 12 VCC (power), 13 OUTPUT_CTRL, 14 REF, 15 2IN-, 16 2IN+

## UC3843AN
designator u?
30-V, 1A, 500KHz current mode PWM controller with 8.4V/7.6V UVLO 100% duty cycle 0°C to 70°C
footprint DIP-8
pins: 1 COMP (in), 2 VFB (in), 3 ISENSE (in), 4 RT/CT (in), 5 GND (power), 6 OUT (out), 7 VCC (power), 8 VREF (in)

## ZMM5V1
designator ZD?
500mW 5.1V / FP: LL-34, DO-213AC, MINI-MELF, SOD-80; LCSC Part #: C5345992; Unit Price: 0.003
footprint LL-34, DO-213AC, MINI-MELF, SOD-80
pins: 1, 2